# EAGLE library part ULN2803AN (library Project2)
Darlington transistor array Check prices <https://pricing.snapeda.com/parts/ULN2803AN/Texas%20Instruments/view-part?ref=eda>
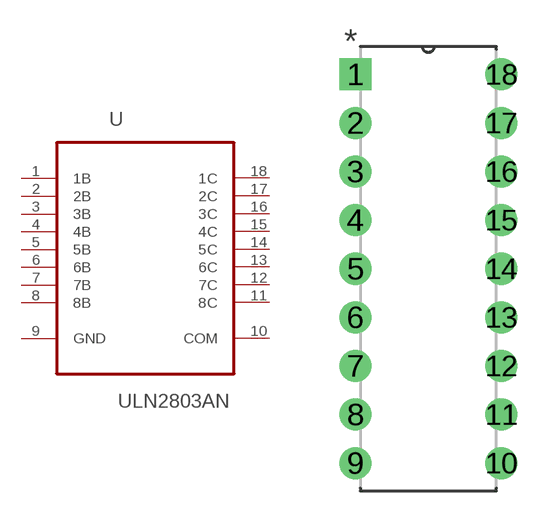
[diagram p2: symbol with the pads of DIP254P762X393-18; footprint DIP254P762X393-18]

Designator prefix U

## ULN2803AN (AVAILABILITY: In Stock; DESCRIPTION: Bipolar (BJT) Transistor Array 8 NPN Darlington 50V 500mA - - Through Hole 18-PDIP; MF: Texas Instruments; MP: ULN2803AN; PACKAGE: PDIP-18 Texas Instruments; PRICE: None; PURCHASE-URL: https://pricing.snapeda.com/search/part/ULN2803AN/?ref=eda)  [DIP254P762X393-18]
1  1B  in
2  2B  in
3  3B  in
4  4B  in
5  5B  in
6  6B  in
7  7B  in
8  8B  in
9  GND  pas
10  COM  out
11  8C  out
12  7C  out
13  6C  out
14  5C  out
15  4C  out
16  3C  out
17  2C  out
18  1C  out

## Footprint DIP254P762X393-18 (pad centres in mm)
drill 1.118 square: 1 -7.62,20.32
drill 1.118: 2 -7.62,17.78; 3 -7.62,15.24; 4 -7.62,12.7; 5 -7.62,10.16; 6 -7.62,7.62; 7 -7.62,5.08; 8 -7.62,2.54; 9 -7.62,0; 10 0,0; 11 0,2.54; 12 0,5.08; 13 0,7.62; 14 0,10.16; 15 0,12.7; 16 0,15.24; 17 0,17.78; 18 0,20.32